# Altium footprint library 690368180672.PcbLib: 1 footprints
Each footprint in its own frame and in the unit in brackets; x right, y up, seen from the top. Pads: shape width x height; smd on the part's side, far side on the other; paste and mask are expansions set on the pad; w line width, h text height; cw(c..) or ccw(c..) is an arc to the next point about the centre after c.
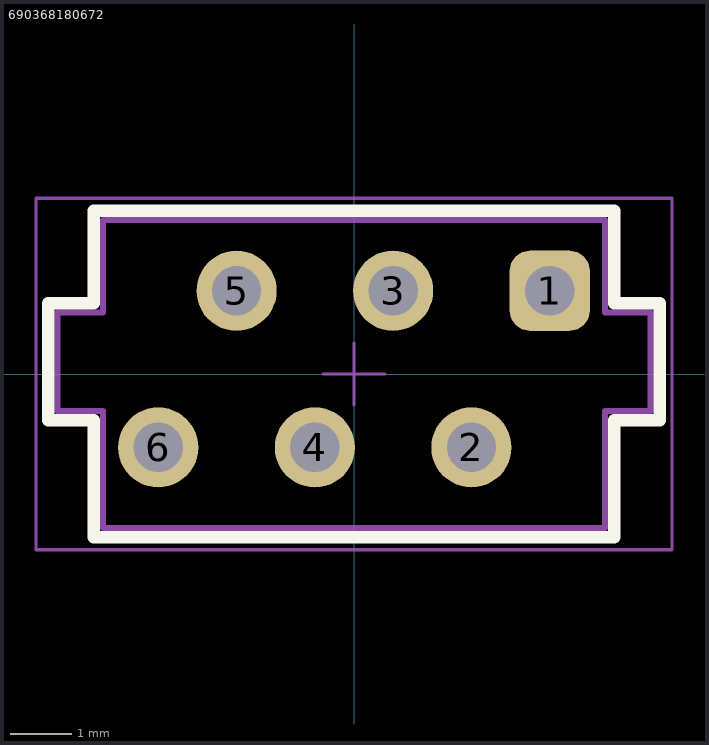
[diagram p0: the footprint, top view; thin cyan lines are the x and y axes]

## 690368180672 [mm]
pads (6):
  rrect50% 1.3x1.3 hole 0.8: 1(3.175,1.35)
  round 1.3 hole 0.8: 2(1.905,-1.19) 3(0.635,1.35) 4(-0.635,-1.19) 5(-1.905,1.35) 6(-3.175,-1.19)
Top Overlay:
  lines w0.2: -4.96,-0.75 -4.96,1.15 -4.22,1.15 -4.22,2.65 4.22,2.65 4.22,1.15 4.96,1.15 4.96,-0.75 4.22,-0.75 4.22,-2.65 -4.22,-2.65 -4.22,-0.75 -4.96,-0.75
Top Designator:
  text ".Designator" at -7.498,-0.5 h1.5
Top Component Outline:
  lines w0.1: -4.81,-0.6 -4.81,1 -4.07,1 -4.07,2.5 4.07,2.5 4.07,1 4.81,1 4.81,-0.6 4.07,-0.6 4.07,-2.5 -4.07,-2.5 -4.07,-0.6 -4.81,-0.6
Top 3D Body:
  lines w0.1: -4.81,-0.6 -4.07,-0.6 -4.07,-2.5 4.07,-2.5 4.07,-0.6 4.81,-0.6 4.81,1 4.07,1 4.07,2.5 -4.07,2.5 -4.07,1 -4.81,1 -4.81,-0.6
Top Courtyard:
  lines w0.05: -0.5,0 0.5,0 ; 0,-0.5 0,0.5 ; -5.16,-2.85 5.16,-2.85 5.16,2.85 -5.16,2.85 -5.16,-2.85
3D body "690368180672.stp": height 5.85, standoff -3.05, extent -4.81,-2.5 4.81,2.5